# EAGLE library part ESP32_MIN132 (library 01jim)
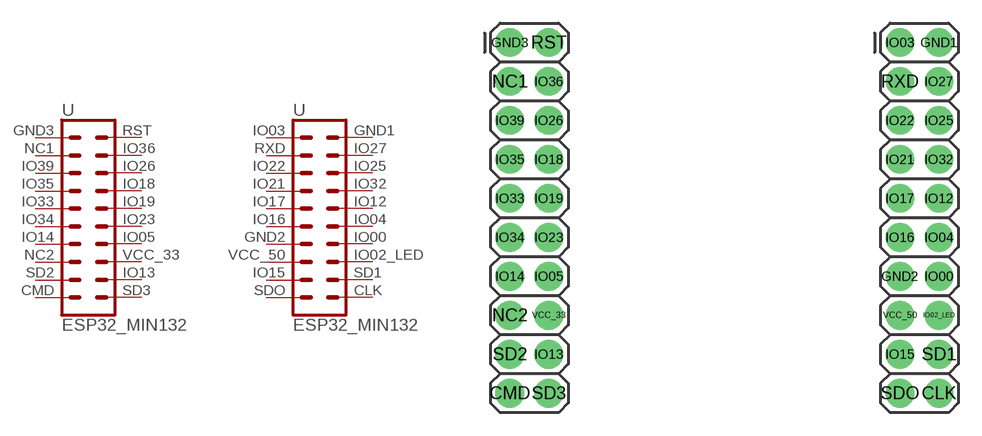
[diagram p3: symbol with the pads of ESP32_MIN132; footprint ESP32_MIN132]

Designator prefix -

## ESP32_MIN132  [ESP32_MIN132]
CLK  40  pas
CMD  19  pas
GND1  22  pas
GND2  33  pas
GND3  1  pas
IO00  34  pas
IO02_LED  36  pas
IO03  21  pas
IO04  32  pas
IO05  14  pas
IO12  30  pas
IO13  18  pas
IO14  13  pas
IO15  37  pas
IO16  31  pas
IO17  29  pas
IO18  8  pas
IO19  10  pas
IO21  27  pas
IO22  25  pas
IO23  12  pas
IO25  26  pas
IO26  6  pas
IO27  24  pas
IO32  28  pas
IO33  9  pas
IO34  11  pas
IO35  7  pas
IO36  4  pas
IO39  5  pas
NC1  3  pas
NC2  15  pas
RST  2  pas
RXD  23  pas
SD1  38  pas
SD2  17  pas
SD3  20  pas
SDO  39  pas
VCC_33  16  pas
VCC_50  35  pas

## Footprint ESP32_MIN132 (pad centres in mm)
drill 1.016 pad 1.88: CLK 15.24,-22.86; CMD -12.7,-22.86; GND1 15.24,0; GND2 12.7,-15.24; GND3 -12.7,0; IO00 15.24,-15.24; IO02_LED 15.24,-17.78; IO03 12.7,0; IO04 15.24,-12.7; IO05 -10.16,-15.24; IO12 15.24,-10.16; IO13 -10.16,-20.32; IO14 -12.7,-15.24; IO15 12.7,-20.32; IO16 12.7,-12.7; IO17 12.7,-10.16; IO18 -10.16,-7.62; IO19 -10.16,-10.16; IO21 12.7,-7.62; IO22 12.7,-5.08; IO23 -10.16,-12.7; IO25 15.24,-5.08; IO26 -10.16,-5.08; IO27 15.24,-2.54; IO32 15.24,-7.62; IO33 -12.7,-10.16; IO34 -12.7,-12.7; IO35 -12.7,-7.62; IO36 -10.16,-2.54; IO39 -12.7,-5.08; NC1 -12.7,-2.54; NC2 -12.7,-17.78; RST -10.16,0; RXD 12.7,-2.54; SD1 15.24,-20.32; SD2 -12.7,-20.32; SD3 -10.16,-22.86; SDO 12.7,-22.86; VCC_33 -10.16,-17.78; VCC_50 12.7,-17.78